# Altium footprint library Demo.PcbLib: 19 footprints (part 2 of 2)
Each footprint in its own frame and in the unit in brackets; x right, y up, seen from the top. Pads: shape width x height; smd on the part's side, far side on the other; paste and mask are expansions set on the pad; w line width, h text height; cw(c..) or ccw(c..) is an arc to the next point about the centre after c.
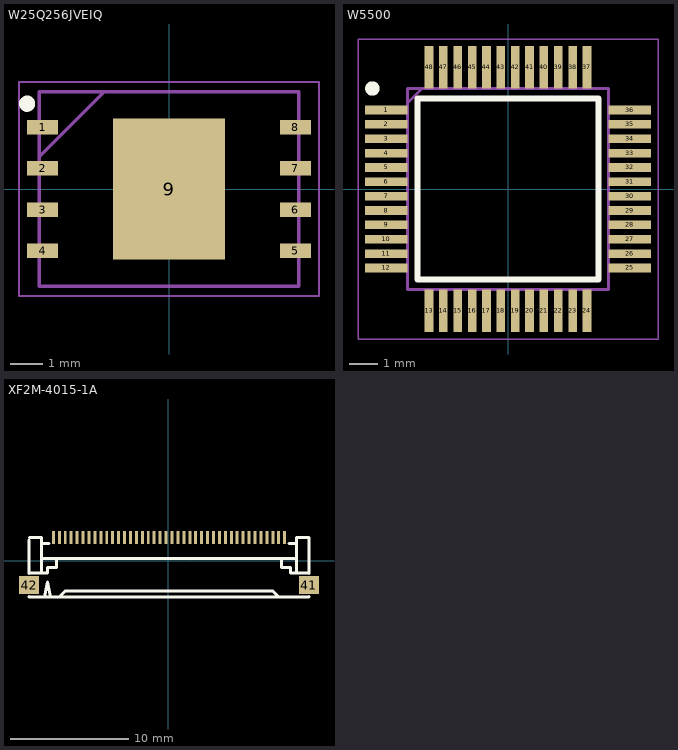
[diagram p1: the footprints below, top view; thin cyan lines are the x and y axes]

## W25Q256JVEIQ [mm]
pads (9):
  rect 0.95x0.45 smd: 1(-3.9,1.905) 2(-3.9,0.635) 3(-3.9,-0.635) 4(-3.9,-1.905) 5(3.9,-1.905) 6(3.9,-0.635) 7(3.9,0.635) 8(3.9,1.905)
  rect 3.45x4.35 smd: 9(0,0)
Top Overlay:
  circle w0.25: c-4.375,2.63 r0.125
Mechanical 15:
  lines w0.1: -4,1 -2,3 ; -4,-3 -4,3 4,3 4,-3 -4,-3
Mechanical 20:
  lines w0.05: -4.625,-3.3 -4.625,3.3 4.625,3.3 4.625,-3.3 -4.625,-3.3
3D body "W25Q256JVEIQ.stp": height 0.8, standoff 0, extent -4.05,-3 4.05,3

## W5500 [mm]
pads (48):
  rect 1.475x0.3 smd: 1(-4.238,2.75) 2(-4.238,2.25) 3(-4.238,1.75) 4(-4.238,1.25) 5(-4.238,0.75) 6(-4.238,0.25) 7(-4.238,-0.25) 8(-4.238,-0.75) 9(-4.238,-1.25) 10(-4.238,-1.75) 11(-4.238,-2.25) 12(-4.238,-2.75) 25(4.238,-2.75) 26(4.238,-2.25) 27(4.238,-1.75) 28(4.238,-1.25) 29(4.238,-0.75) 30(4.238,-0.25) 31(4.238,0.25) 32(4.238,0.75) 33(4.238,1.25) 34(4.238,1.75) 35(4.238,2.25) 36(4.238,2.75)
  rect 0.3x1.475 smd: 13(-2.75,-4.238) 14(-2.25,-4.238) 15(-1.75,-4.238) 16(-1.25,-4.238) 17(-0.75,-4.238) 18(-0.25,-4.238) 19(0.25,-4.238) 20(0.75,-4.238) 21(1.25,-4.238) 22(1.75,-4.238) 23(2.25,-4.238) 24(2.75,-4.238) 37(2.75,4.238) 38(2.25,4.238) 39(1.75,4.238) 40(1.25,4.238) 41(0.75,4.238) 42(0.25,4.238) 43(-0.25,4.238) 44(-0.75,4.238) 45(-1.25,4.238) 46(-1.75,4.238) 47(-2.25,4.238) 48(-2.75,4.238)
Top Overlay:
  circle w0.25: c-4.725,3.5 r0.125
  lines w0.2: -3.15,-3.15 -3.15,3.15 3.15,3.15 3.15,-3.15 -3.15,-3.15
Mechanical 15:
  lines w0.1: -3.5,3 -3,3.5 ; -3.5,-3.5 -3.5,3.5 3.5,3.5 3.5,-3.5 -3.5,-3.5
Mechanical 20:
  lines w0.05: -5.225,-5.225 -5.225,5.225 5.225,5.225 5.225,-5.225 -5.225,-5.225
3D body "W5500.stp": height 1.6, standoff 0, extent -4.5,-4.5 4.5,4.5

## XF2M-4015-1A [mm] "Used for 40 Pin, ILI9488 LCD"
pads (42):
  rect 0.25x1.1 smd: 1(-9.674,1.953) 2(-9.174,1.953) 3(-8.674,1.953) 4(-8.174,1.953) 5(-7.674,1.953) 6(-7.174,1.953) 7(-6.674,1.953) 8(-6.174,1.953) 9(-5.674,1.953) 10(-5.174,1.953) 11(-4.674,1.953) 12(-4.174,1.953) 13(-3.674,1.953) 14(-3.174,1.953) 15(-2.674,1.953) 16(-2.174,1.953) 17(-1.674,1.953) 18(-1.172,1.951) 19(-0.672,1.951) 20(-0.172,1.951) 21(0.327,1.952) 22(0.827,1.952) 23(1.33,1.95) 24(1.83,1.95) 25(2.33,1.95) 26(2.83,1.95) 27(3.33,1.95) 28(3.83,1.95) 29(4.33,1.95) 30(4.83,1.95) 31(5.33,1.95) 32(5.83,1.95) 33(6.33,1.95) 34(6.83,1.95) 35(7.33,1.95) 36(7.83,1.95) 37(8.33,1.95) 38(8.83,1.95) 39(9.33,1.95) 40(9.83,1.95)
  rect 1.7x1.5 smd: 41(11.877,-2.048) 42(-11.723,-2.048)
Top Overlay:
  lines w0.254: -11.73,1.771 -11.726,-1.067 ; -11.723,-3.029 -11.723,-3.048 11.877,-3.048 11.877,-3.029 ; -11.673,-1.047 -10.172,-1.047 -10.172,-0.549 -9.423,-0.549 -9.423,0.202 ; -11.673,1.953 -10.672,1.953 -10.672,1.452 ; -10.673,-1.048 -10.673,1.452 ; -10.673,0.202 10.827,0.202 ; -10.524,1.452 -10.03,1.452 ; -10.423,-3.048 -10.173,-1.798 -9.923,-3.048 ; -9.173,-3.048 -8.673,-2.548 8.827,-2.548 9.327,-3.048 ; 9.577,0.201 9.576,-0.55 10.326,-0.55 10.326,-1.048 11.827,-1.048 ; 10.186,1.452 10.826,1.452 ; 10.826,-1.047 10.826,1.452 ; 11.877,-1.067 11.877,1.952 ; 11.878,1.953 10.826,1.953 10.826,1.452
Mechanical 15:
  lines w0.003: 1.982,-0.007 1.982,-0.007
3D body "XF2M-4015-1A.stp": height 2, standoff 0, extent -11.948,-2.997 12.152,2.903